# EAGLE library part FAN3227 (library collin)
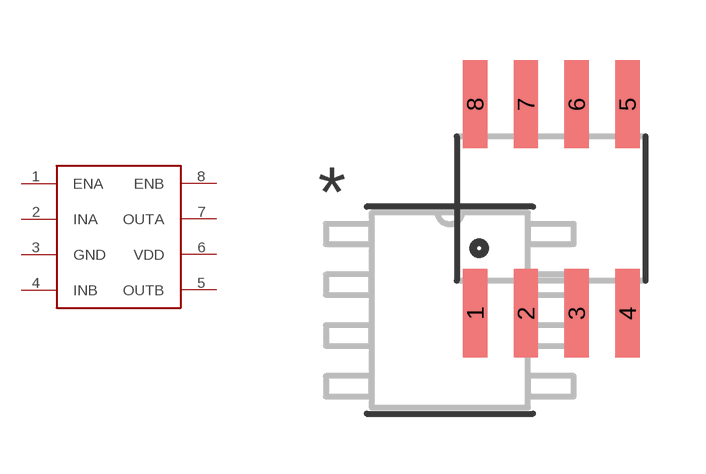
[diagram p8: symbol with the pads of SOIC8; footprint SOIC8]

Designator prefix -

## FAN3227  [SOIC8]
1  ENA
2  INA
3  GND
4  INB
5  OUTB
6  VDD
7  OUTA
8  ENB

## Footprint SOIC8 (pad centres in mm)
smd 0.61 x 2.21: 1 0.635,-0.076; 2 1.905,-0.076; 3 3.175,-0.076; 4 4.445,-0.076; 5 4.445,5.156; 6 3.175,5.156; 7 1.905,5.156; 8 0.635,5.156